# Altium footprint library bspd parts.PcbLib: 32 footprints (part 1 of 2)
Each footprint in its own frame and in the unit in brackets; x right, y up, seen from the top. Pads: shape width x height; smd on the part's side, far side on the other; paste and mask are expansions set on the pad; w line width, h text height; cw(c..) or ccw(c..) is an arc to the next point about the centre after c.
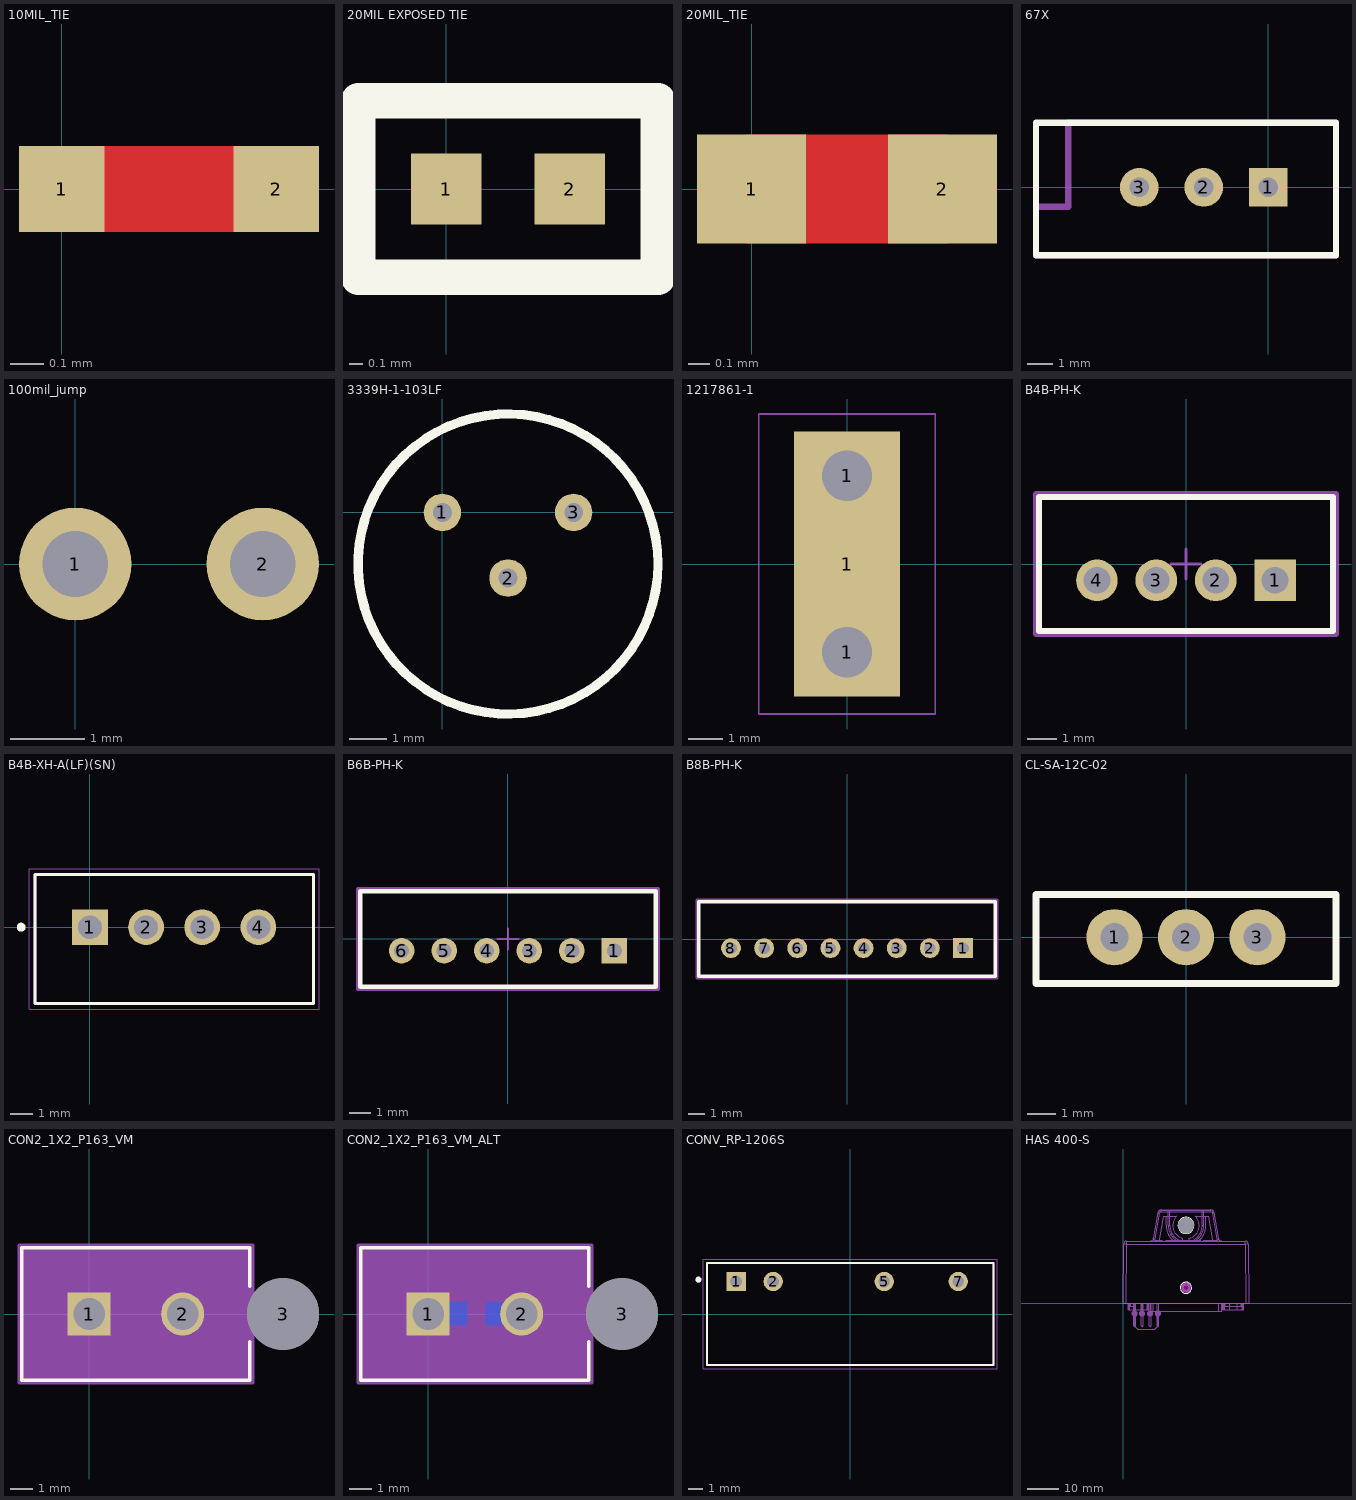
[diagram p0: the footprints below, top view; thin cyan lines are the x and y axes]

## 10MIL_TIE [mil]
pads (2):
  rect 10x10 smd paste-100 mask-100: 1(0,0) 2(25,0)
Top Layer:
  lines w10: 0,0 25,0

## 20MIL EXPOSED TIE [mil]
pads (2):
  rect 20x20 smd paste-100: 1(0,0) 2(35,0)
Top Overlay:
  lines w10: -25,-25 -25,25 60,25 60,-25 -25,-25
Top Paste:
  rectangle: 0,-10 35,10
Top Solder:
  lines w20: 0,0 35,0

## 20MIL_TIE [mil]
pads (2):
  rect 20x20 smd paste-100 mask-100: 1(0,0) 2(35,0)
Top Layer:
  lines w20: 0,0 35,0

## 67X [mil]
pads (3):
  rect 60x60 hole 30: 1(0,0)
  round 60 hole 30: 2(-100,0) 3(-200,0)
Top Overlay:
  lines w10: -360,-105 105,-105 105,100 -360,100 -360,-105
Top Component Outline:
  lines w10: -360,-105 -360,-30 -310,-30 -310,100 105,100 105,-105 -360,-105
3D body "67x.stp": height 421, standoff -169, extent -352.49,-99.99 92.51,90.01

## 100mil_jump [mil]
pads (2):
  round 60 hole 35 paste-100 mask-100: 1(0,0) 2(100,0)
3D body "JL-100-25-T.stp": height 47.46, standoff -100, extent -10,-22.41 115,22.41

## 3339H-1-103LF [mil]
pads (3):
  round 40 hole 20 paste-10000: 1(0,0) 2(70,-70) 3(140,0)
Top Overlay:
  circle w10: c70,-55 r160
3D body "3339H001XXX.stp": height 251, standoff -187, extent -80,-205 220,95

## 1217861-1 [mil]
pads (3):
  round 100 hole 57: 1(0,-100) 1(0,100)
  rect 120x300 smd paste-39370.1 mask+4: 1(0,0)
Top Solder:
  rectangle: 20,-60 60,-5
  rectangle: -60,5 -20,60
Top 3D Body:
  lines w2: -100,-170 100,-170 100,170 0,170 -100,170 -100,-170
3D body "c-1217861-1-h-3d.stp": height 415, standoff -137, extent -61.49,-156 60,156

## B4B-PH-K [mm]
pads (4):
  rect 1.4x1.4 hole 0.9 paste-1000 mask+0: 1(3,-0.55)
  round 1.4 hole 0.9 paste-1000 mask+0: 2(1,-0.55) 3(-1,-0.55) 4(-3,-0.55)
Top Overlay:
  lines w0.2: -4.95,-2.25 -4.95,2.25 4.95,2.25 4.95,-2.25 -4.95,-2.25
Mechanical 10:
  lines w0.2: -5.05,-2.35 -5.05,2.35 5.05,2.35 5.05,-2.35 -5.05,-2.35
  text ".Designator" at 0,0 h1
Mechanical 12:
  lines w0.15: -4.95,-2.25 -4.95,2.25 4.95,2.25 4.95,-2.25 -4.95,-2.25
Mechanical 15:
  lines w0.1: -0.5,0 0.5,0 ; 0,-0.5 0,0.5
  lines w0.2: -5.05,-2.35 -5.05,2.35 5.05,2.35 5.05,-2.35 -5.05,-2.35
3D body "B4B-PH-K-S.STEP": height 6, standoff -3.4, extent -4.95,-2.25 4.95,2.25

## B4B-XH-A(LF)(SN) [mm]
pads (4):
  rect 1.59x1.59 hole 1.06: 1(0,0)
  round 1.59 hole 1.06: 2(2.5,0) 3(5,0) 4(7.5,0)
Top Overlay:
  circle w0.2: c-3.06,0 r0.1
  lines w0.127: -2.45,-3.4 -2.45,2.35 9.95,2.35 9.95,-3.4 -2.45,-3.4
Top 3D Body:
  lines w0.127: -2.45,-3.4 -2.45,2.35 ; -2.45,-3.4 9.95,-3.4 ; -2.45,-3.4 -2.45,2.35 ; -2.45,-3.4 9.95,-3.4 ; -2.45,2.35 9.95,2.35 ; -2.45,2.35 9.95,2.35 ; 9.95,-3.4 9.95,2.35 ; 9.95,-3.4 9.95,2.35
Bottom Component Outline:
  lines w0.05: -2.7,-3.65 -2.7,2.6 10.2,2.6 10.2,-3.65 -2.7,-3.65
3D body "B4B-XH-A.STEP": height 7, standoff -3.4, extent -2.45,-3.4 9.95,2.35

## B6B-PH-K [mm]
pads (6):
  rect 1.2x1.2 hole 0.7 paste-1000 mask+0: 1(5,-0.55)
  round 1.2 hole 0.7 paste-1000 mask+0: 2(3,-0.55) 3(1,-0.55) 4(-1,-0.55) 5(-3,-0.55) 6(-5,-0.55)
Top Overlay:
  lines w0.2: -6.95,-2.25 -6.95,2.25 6.95,2.25 6.95,-2.25 -6.95,-2.25
Mechanical 10:
  lines w0.2: -7.05,-2.35 -7.05,2.35 7.05,2.35 7.05,-2.35 -7.05,-2.35
  text ".Designator" at 0,0 h1
Mechanical 12:
  lines w0.15: -6.95,-2.25 -6.95,2.25 6.95,2.25 6.95,-2.25 -6.95,-2.25
Mechanical 15:
  lines w0.1: -0.5,0 0.5,0 ; 0,-0.5 0,0.5
  lines w0.2: -7.05,-2.35 -7.05,2.35 7.05,2.35 7.05,-2.35 -7.05,-2.35
3D body "B6B-PH-K-S.STEP": height 6, standoff -3.4, extent -6.95,-2.25 6.95,2.25

## B8B-PH-K [mm]
pads (8):
  rect 1.2x1.2 hole 0.7 paste-1000 mask+0: 1(7,-0.55)
  round 1.2 hole 0.7 paste-1000 mask+0: 2(5,-0.55) 3(3,-0.55) 4(1,-0.55) 5(-1,-0.55) 6(-3,-0.55) 7(-5,-0.55) 8(-7,-0.55)
Top Overlay:
  lines w0.2: -8.95,-2.25 -8.95,2.25 8.95,2.25 8.95,-2.25 -8.95,-2.25
Mechanical 10:
  lines w0.2: -9.05,-2.35 -9.05,2.35 9.05,2.35 9.05,-2.35 -9.05,-2.35
  text ".Designator" at 0,0 h1
Mechanical 12:
  lines w0.15: -8.95,-2.25 -8.95,2.25 8.95,2.25 8.95,-2.25 -8.95,-2.25
Mechanical 15:
  lines w0.2: -9.05,-2.35 -9.05,2.35 9.05,2.35 9.05,-2.35 -9.05,-2.35
3D body "B8B-PH-K-S.STEP": height 6, standoff -3.4, extent -8.95,-2.25 8.95,2.25

## CL-SA-12C-02 [mm]
pads (3):
  round 2 hole 1 paste-2.54 mask-2.54: 1(-2.54,0) 2(0,0) 3(2.54,0)
Top Overlay:
  lines w0.254: -5.334,-1.651 -5.334,1.524 5.334,1.524 5.334,-1.651 -5.334,-1.651
3D body "CL-SA-12C-02.stp": height 6.4, standoff -5, extent -5,-1.27 5,1.27

## CON2_1X2_P163_VM [mil]
pads (3):
  rect 75x75 hole 55: 1(0,0)
  round 75 hole 55: 2(162.99,0)
  round 125 hole 125 unplated: 3(338,0)
Top Overlay:
  lines w6: 280,-48.49 280,-115 -117,-115 -117,115 280,115 280,48.49
Top Component Outline:
  lines w6: -122,-120 -122,120 285,120 285,-120 -122,-120
Top Courtyard:
  region: 285,120 -122,120 -122,-120 285,-120
3D body: height 10, standoff 0, extent 0,0 10,10
3D body "c-1-770872-0-h-3d.stp": height 566.5, standoff -168, extent -159.49,-139.99 379.51,110.01

## CON2_1X2_P163_VM_ALT [mil]
pads (3):
  rect 75x75 hole 55: 1(0,0)
  round 75 hole 55: 2(162.99,0)
  round 125 hole 125 unplated: 3(338,0)
Bottom Layer:
  region: 142.63,21 99.63,21 99.63,-20 142.63,-20
  region: 68.63,21 33.63,21 33.63,-20 68.63,-20
Top Overlay:
  lines w6: 280,-48.49 280,-115 -117,-115 -117,115 280,115 280,48.49
Bottom Solder:
  region: 162.99,21 33.63,21 33.63,-20 162.99,-20
Top Component Outline:
  lines w6: -122,-120 -122,120 285,120 285,-120 -122,-120
Top Courtyard:
  region: 285,120 -122,120 -122,-120 285,-120
3D body: height 10, standoff 0, extent 0,0 10,10
3D body "c-1-770872-0-h-3d.stp": height 566.5, standoff -168, extent -159.49,-139.99 379.51,110.01

## CONV_RP-1206S [mm]
pads (4):
  rect 1.328x1.328 hole 0.82: 1(-7.825,2.23)
  round 1.328 hole 0.82: 2(-5.285,2.23) 5(2.335,2.23) 7(7.415,2.23)
Top Overlay:
  circle w0.2: c-10.415,2.36 r0.1
  lines w0.127: -9.825,-3.5 9.825,-3.5 9.825,3.5 -9.825,3.5 -9.825,-3.5
Top 3D Body:
  circle w0.2: c-10.415,2.36 r0.1
  circle w0.2: c-10.415,2.36 r0.1
  lines w0.127: -9.825,-3.5 9.825,-3.5 ; -9.825,-3.5 -9.825,3.5 ; -9.825,-3.5 9.825,-3.5 ; -9.825,-3.5 -9.825,3.5 ; -9.825,3.5 9.825,3.5 ; -9.825,3.5 9.825,3.5 ; 9.825,-3.5 9.825,3.5 ; 9.825,-3.5 9.825,3.5
Bottom Component Outline:
  lines w0.05: -10.075,-3.75 10.075,-3.75 10.075,3.75 -10.075,3.75 -10.075,-3.75
3D body "RP-1206S--3DModel-STEP-1.STEP": height 9.7, standoff -4.6, extent -9.871,-3.652 9.779,3.398

## HAS 400-S [mil]
pads (5):
  round 78.74 on Mech1 paste-100 mask-100: 1(145,-130) 2(240,-130) 3(340,-130) 4(440,-130)
  round 0 / inner round 350 / far side round 350 hole 200 unplated paste-100 mask-100: MTG(795,985)
Top Overlay:
  circle w10: c795,985 r102
  circle w10: c795,195 r71.06
Bottom Solder:
  region: 795,805 783.2,805 759.81,808.08 737.02,814.19 715.22,823.22 694.78,835.01 676.06,849.38 659.38,866.06 645.01,884.78 633.22,905.22 624.19,927.02 618.08,949.81 615,973.2 615,985 615,996.8 618.08,1020.19 624.19,1042.98 633.22,1064.78 645.01,1085.22 659.38,1103.94 676.06,1120.62 694.78,1134.99 715.22,1146.78 737.02,1155.81 759.81,1161.92 783.2,1165 795,1165 806.8,1165 830.19,1161.92 852.98,1155.81 874.78,1146.78 895.22,1134.99 913.94,1120.62 930.62,1103.94 944.99,1085.22 956.78,1064.78 965.81,1042.98 971.92,1020.19 975,996.8 975,985 975,973.2 971.92,949.81 965.81,927.02 956.78,905.22 944.99,884.78 930.62,866.06 913.94,849.38 895.22,835.01 874.78,823.22 852.98,814.19 830.19,808.08 806.8,805
Keep-Out Layer:
  board cut-out: 795.28,895.73 786.56,895.73 769.46,899.13 753.35,905.8 738.85,915.49 726.52,927.82 716.83,942.32 710.16,958.43 706.76,975.53 706.76,984.25 706.76,992.96 710.16,1010.07 716.83,1026.18 726.52,1040.67 738.85,1053 753.35,1062.69 769.46,1069.36 786.56,1072.77 795.28,1072.77 804,1072.77 821.1,1069.36 837.21,1062.69 851.71,1053 864.04,1040.67 873.72,1026.18 880.4,1010.07 883.8,992.96 883.8,984.25 883.8,975.53 880.4,958.43 873.72,942.32 864.04,927.82 851.71,915.49 837.21,905.8 821.1,899.13 804,895.73
  board cut-out: 740.19,196.84 740.19,202.26 742.3,212.9 746.45,222.91 752.47,231.92 760.14,239.59 769.15,245.61 779.16,249.76 789.8,251.88 795.22,251.88 800.64,251.88 811.27,249.76 821.28,245.61 830.3,239.59 837.96,231.92 843.98,222.91 848.13,212.9 850.25,202.26 850.25,196.84 850.25,191.42 848.13,180.79 843.98,170.78 837.96,161.76 830.3,154.1 821.28,148.08 811.27,143.93 800.64,141.81 795.22,141.81 789.8,141.81 779.16,143.93 769.15,148.08 760.14,154.1 752.47,161.76 746.45,170.78 742.3,180.79 740.19,191.42
Top Component Outline:
  drawing of 4712 lines, arcs and shapes, not listed
Mechanical 15:
  circle w0.5: c795.22,196.84 r55.03
  circle w0.5: c795.28,984.25 r88.52
3D body "92095A192_BUTTON HEAD HEX DRIVE SCREW.STEP": height 295.28, standoff -263.78, extent 645.4,835.4 944.61,1134.61
3D body "HAS 50-S black box.stp": height 1197.28, standoff -113.74, extent 0.61,-329.1 1591.16,1182.71
3D body "90710A035_TYPE 18-8 SS THIN HEX NUT - DIN 439B.STEP": height 88.31, standoff 1.69, extent 657.21,825.88 932.8,1144.11